# Altium schematic symbol library ACNV4506.SchLib: 1 symbol
Pins are listed as number, name and electrical type; pins without a type are passive.

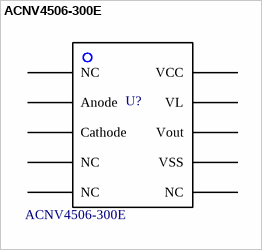
[diagram p0: symbol ACNV4506-300E]

## ACNV4506-300E
designator U?  PartNumber: ACNV4506-300E  (hidden comment: *)
Manufacturer: Broadcom Limited; PartDescription: OPTOISO 7.5KV OPEN COLL 10DIP GW; Supplier 1: Mouser; Supplier Part Number 1: 630-ACNV4506-300E; Package Type: 10-SMD,Gull Wing
footprint ACNV4506-300E
pins: 1 NC, 2 Anode, 3 Cathode, 4 NC, 5 NC, 6 NC, 7 VSS, 8 Vout, 9 VL, 10 VCC